# Altium schematic symbol library cap_single_p.Schlib: 1 symbol
Pins are listed as number, name and electrical type; pins without a type are passive.

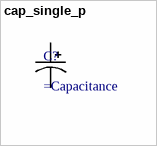
[diagram p0: symbol cap_single_p]

## cap_single_p
designator C?
pins: 1, 2